# EAGLE library part LTC3260EMSEPBF (library LTC3260EMSEPBF)
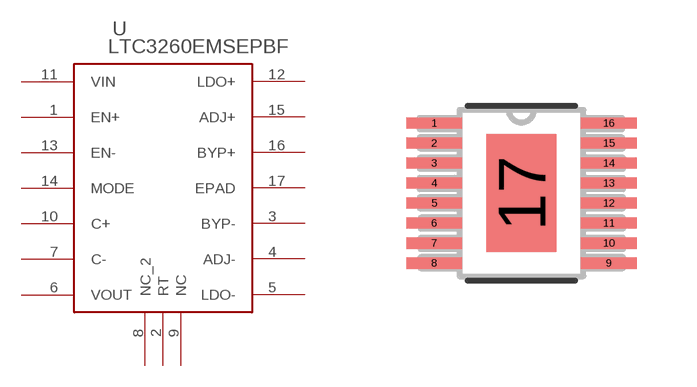
[diagram p0: symbol with the pads of MSOP-16_MSE; footprint MSOP-16_MSE]

Designator prefix U

## LTC3260EMSEPBF (AVAILABILITY: Unavailable; DESCRIPTION: LTC3260 Charge Pump Inverter MSOP EP-16; MF: Linear Technology/Analog; MP: LTC3260EMSE#PBF; PACKAGE: MSOP-16 Linear Technology; PRICE: None)  [MSOP-16_MSE]
1  EN+  in
2  RT  in
3  BYP-  out
4  ADJ-  in
5  LDO-  out
6  VOUT  out
7  C-  pas
8  NC_2  nc
9  NC  nc
10  C+  pas
11  VIN  in
12  LDO+  out
13  EN-  in
14  MODE  in
15  ADJ+  in
16  BYP+  out
17  EPAD  pas

## Footprint MSOP-16_MSE (pad centres in mm)
smd 1.397 x 0.279: 1 -2.184,1.751; 2 -2.184,1.251; 3 -2.184,0.751; 4 -2.184,0.25; 5 -2.184,-0.25; 6 -2.184,-0.751; 7 -2.184,-1.251; 8 -2.184,-1.751; 9 2.184,-1.751; 10 2.184,-1.251; 11 2.184,-0.751; 12 2.184,-0.25; 13 2.184,0.25; 14 2.184,0.751; 15 2.184,1.251; 16 2.184,1.751
smd 1.753 x 2.946: 17 0,0